# Altium schematic symbol library Conn_TE_282837-2_eec.SchLib: 1 symbol
Pins are listed as number, name and electrical type; pins without a type are passive.

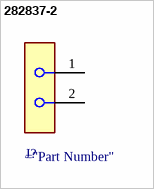
[diagram p0: symbol 282837-2]

## 282837-2
designator J?  (value not drawn)
pins: 1, 2